# Altium schematic symbol library SILICA_SCHLIB.SchLib: 303 symbols (part 4 of 4)
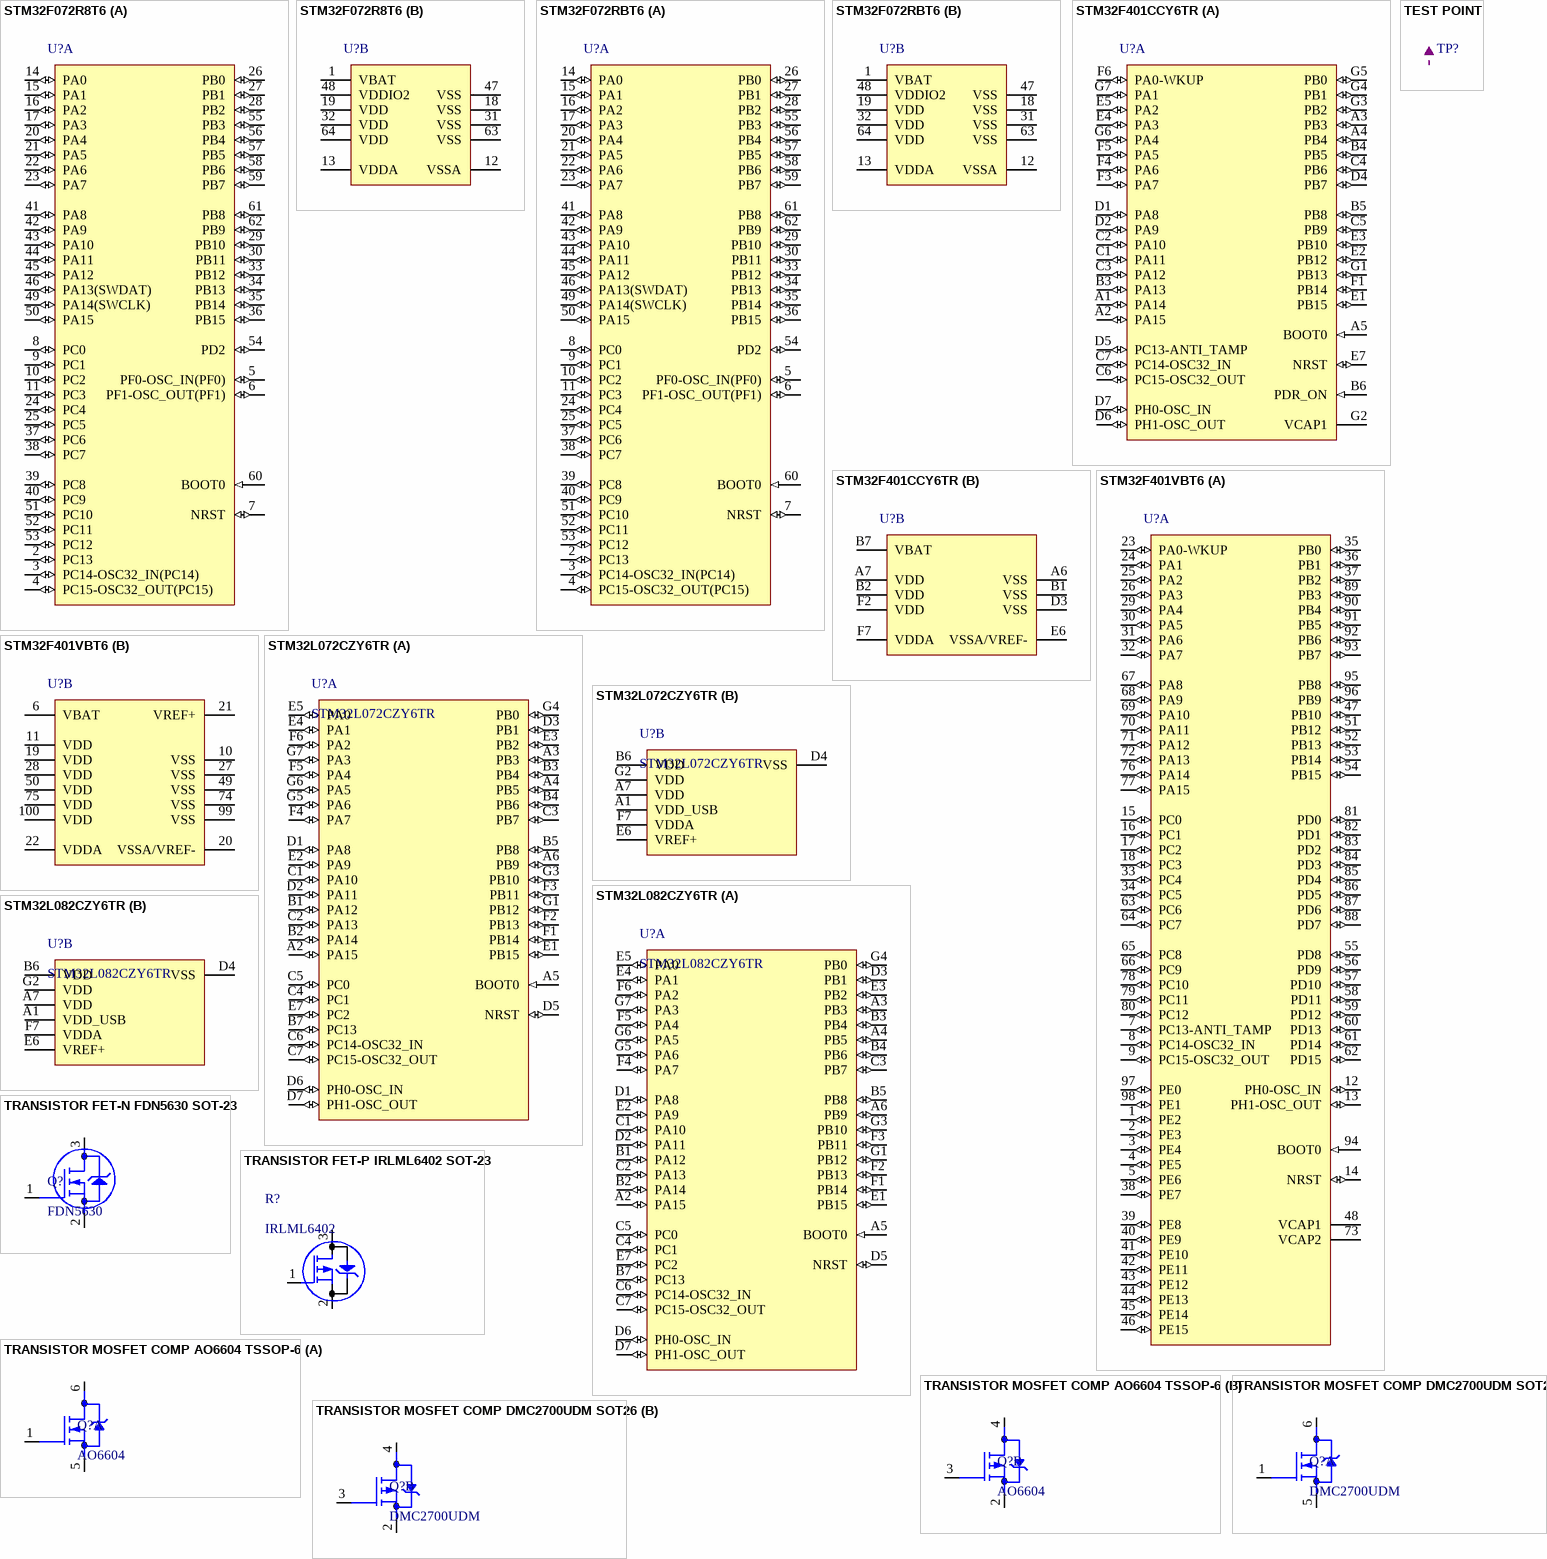
[diagram p12: symbols STM32F072R8T6 to TRANSISTOR MOSFET COMP DMC2700UDM SOT26]

## STM32F401VBT6
designator U?
ARM Cortex-M4 32-bit MCU+FPU, 105 DMIPS, 128 kB Flash, 64 kB Internal RAM, 79 I/Os, 100-pin LQFP, -40 to 85 degC, Tray; Manufacturer: STMicroelectronics; PartNumber: STM32F401VBT6; FLASH Size (Prog) (kB): 128; I/Os (High Current): 79; Internal RAM Size (kB): 64; Operating Frequency(F) (Processor speed) (MHz): 84; Supply Voltage(Vcc) max (V): 3.6; Supply Voltage(Vcc) min (V): 1.8; DatasheetVersion: Rev. 1; PackageVersion: Rev. 1, 06/2013; PackageReference: LQFP100; PackageDescription: 100-Pin Low Profile Quad Flat Package, 14 x 14 mm Body, 0.5 mm Pitch; Supplier 1: Newark; Supplier Part Number 1: 19X6222; Supplier 2: Mouser; Supplier Part Number 2: 511-STM32F401VBT6; Core: ARM Cortex-M4; Packing: Tray; Mounting Technology: Surface Mount; ComponentLink1Description: Manufacturer URL; ComponentLink1URL: http://www.st.com/web/en/home.html; ComponentLink2Description: Datasheet; ComponentLink2URL: http://www.st.com/st-web-ui/static/active/en/resource/technical/document/data_brief/DM00071938.pdf; ComponentLink3Description: Package Specification; ComponentLink3URL: http://www.st.com/st-web-ui/static/active/en/resource/technical/document/data_brief/DM00071938.pdf
footprint STM-LQFP100_N (Thin QFP, 100-Leads, Body 14x14mm, Pitch 0.5mm, IPC Medium Density)
footprint STM-LQFP100_L (Thin QFP, 100-Leads, Body 14x14mm, Pitch 0.5mm, IPC High Density)
footprint STM-LQFP100_M (Thin QFP, 100-Leads, Body 14x14mm, Pitch 0.5mm, IPC Low Density)
footprint STM-LQFP100_V (Thin QFP, 100-Leads, Body 14x14mm, Pitch 0.5mm, ST Recommended)
part A pins: 1 PE2 (io) "PE2/SPI4_SCK,TRACECLK", 2 PE3 (io) "PE3/TRACED0", 3 PE4 (io) "PE4/SPI4_NSS,TRACED1", 4 PE5 (io) "PE5/SPI4_MISO,TIM9_CH1,TRACED2", 5 PE6 (io) "PE6/SPI4_MOSI,TIM9_CH2,TRACED3", 7 PC13-ANTI_TAMP (io) "PC13-ANTI_TAMP/TAMP_1", 8 PC14-OSC32_IN (io) "PC14-OSC32_IN/OSC32_IN", 9 PC15-OSC32_OUT (io) "PC15-OSC32_OUT/OSC32_OUT", 12 PH0-OSC_IN (io) "PH0-OSC_IN/OSC_IN", 13 PH1-OSC_OUT (io) "PH1-OSC_OUT/OSC_OUT", 14 NRST (io), 15 PC0 (io) "PC0/ADC1_10", 16 PC1 (io) "PC1/ADC1_11", 17 PC2 (io) "PC2/SPI2_MISO,I2S2ext_SD/ADC1_12", 18 PC3 (io) "PC3/SPI2_MOSI/I2S2_SD/ADC1_13", 23 PA0-WKUP (io) "PA0-WKUP/USART2_CTS,TIM2_CH1/TIM2_ETR,TIM5_CH1/ADC1_0,WKUP", 24 PA1 (io) "PA1/USART2_RTS,TIM2_CH2,TIM5_CH2/ADC1_1", 25 PA2 (io) "PA2/USART2_TX,TIM2_CH3,TIM5_CH3,TIM9_CH1/ADC1_2", 26 PA3 (io) "PA3/USART2_RX,TIM2_CH4,TIM5_CH4,TIM9_CH2/ADC1_3", 29 PA4 (io) "PA4/SPI1_NSS,SPI3_NSS/I2S3_WS,USART2_CK/ADC1_4", 30 PA5 (io) "PA5/SPI1_SCK,TIM2_CH1/TIM2_ETR/ADC1_5", 31 PA6 (io) "PA6/SPI1_MISO,TIM1_BKIN,TIM3_CH1/ADC1_6", 32 PA7 (io) "PA7/SPI1_MOSI,TIM1_CH1N,TIM3_CH2/ADC1_7", 33 PC4 (io) "PC4/ADC1_14", 34 PC5 (io) "PC5/ADC1_15", 35 PB0 (io) "PB0/TIM1_CH2N,TIM3_CH3/ADC1_8", 36 PB1 (io) "PB1/TIM1_CH3N,TIM3_CH4/ADC1_9", 37 PB2 (io), 38 PE7 (io) "PE7/TIM1_ETR", 39 PE8 (io) "PE8/TIM1_CH1N", 40 PE9 (io) "PE9/TIM1_CH1", 41 PE10 (io) "PE10/TIM1_CH2N", 42 PE11 (io) "PE11/SPI4_NSS,TIM1_CH2", 43 PE12 (io) "PE12/SPI4_SCK,TIM1_CH3N", 44 PE13 (io) "PE13/SPI4_MISO,TIM1_CH3", 45 PE14 (io) "PE14/SPI4_MOSI,TIM1_CH4", 46 PE15 (io) "PE15/TIM1_BKIN", 47 PB10 (io) "PB10/SPI2_SCK/I2S2_CK,I2C2_SCL,TIM2_CH3", 48 VCAP1 (power), 51 PB12 (io) "PB12/SPI2_NSS/I2S2_WS,I2C2_SMBAL,TIM1_BKIN", 52 PB13 (io) "PB13/SPI2_SCK/I2S2_CK,TIM1_CH1N", 53 PB14 (io) "PB14/SPI2_MISO,I2S2ext_SD,TIM1_CH2N", 54 PB15 (io) "PB15/SPI2_MOSI/I2S2_SD,TIM1_CH3N,RTC_50Hz", 55 PD8 (io), 56 PD9 (io), 57 PD10 (io), 58 PD11 (io), 59 PD12 (io) "PD12/TIM4_CH1", 60 PD13 (io) "PD13/TIM4_CH2", 61 PD14 (io) "PD14/TIM4_CH3", 62 PD15 (io) "PD15/TIM4_CH4", 63 PC6 (io) "PC6/I2S2_MCK,USART6_TX,TIM3_CH1,SDIO_D6", 64 PC7 (io) "PC7/I2S3_MCK,USART6_RX,TIM3_CH2,SDIO_D7", 65 PC8 (io) "PC8/USART6_CK,TIM3_CH3,SDIO_D0", 66 PC9 (io) "PC9/I2S2_CKIN,I2C3_SDA,TIM3_CH4,SDIO_D1,MCO_2", 67 PA8 (io) "PA8/I2C3_SCL,USART1_CK,TIM1_CH1,USB_FS_SOF,MCO_1", 68 PA9 (io) "PA9/I2C3_SMBAL,USART1_TX,TIM1_CH2,USB_FS_VBUS", 69 PA10 (io) "PA10/USART1_RX,TIM1_CH3,USB_FS_ID", 70 PA11 (io) "PA11/USART1_CTS,USART6_TX,TIM1_CH4,USB_FS_DM", 71 PA12 (io) "PA12/USART1_RTS,USART6_RX,TIM1_ETR,USB_FS_DP", 72 PA13 (io) "PA13/JTMS-SWDIO", 73 VCAP2 (power), 76 PA14 (io) "PA14/JTCK-SWCLK", 77 PA15 (io) "PA15/SPI1_NSS,SPI3_NSS/I2S3_WS,TIM2_CH1/TIM2_ETR,JTDI", 78 PC10 (io) "PC10/SPI3_SCK/I2S3_CK,SDIO_D2", 79 PC11 (io) "PC11/I2S3ext_SD,SPI3_MISO,SDIO_D3", 80 PC12 (io) "PC12/SPI3_MOSI/I2S3_SD,SDIO_CK", 81 PD0 (io), 82 PD1 (io), 83 PD2 (io) "PD2/TIM3_ETR,SDIO_CMD", 84 PD3 (io) "PD3/SPI2_SCK/I2S2_CK,USART2_CTS", 85 PD4 (io) "PD4/USART2_RTS", 86 PD5 (io) "PD5/USART2_TX", 87 PD6 (io) "PD6/SPI3_MOSI/I2S3_SD,USART2_RX", 88 PD7 (io) "PD7/USART2_CK", 89 PB3 (io) "PB3/SPI1_SCK,SPI3_SCK/I2S3_CK,I2C2_SDA,TIM2_CH2,JTDO-SWO", 90 PB4 (io) "PB4/SPI1_MISO,SPI3_MISO,I2S3ext_SD,I2C3_SDA,TIM3_CH1,JTRST", 91 PB5 (io) "PB5/SPI1_MOSI,SPI3_MOSI/I2S3_SD,I2C1_SMBAL,TIM3_CH2", 92 PB6 (io) "PB6/I2C1_SCL,USART1_TX,TIM4_CH1", 93 PB7 (io) "PB7/I2C1_SDA,USART1_RX,TIM4_CH2", 94 BOOT0 (in), 95 PB8 (io) "PB8/I2C1_SCL,TIM4_CH3,TIM10_CH1,SDIO_D4", 96 PB9 (io) "PB9/SPI2_NSS/I2S2_WS,I2C1_SDA,TIM4_CH4,TIM11_CH1,SDIO_D5", 97 PE0 (io) "PE0/TIM4_ETR", 98 PE1 (io)
part B pins: 6 VBAT (power), 10 VSS (power), 11 VDD (power), 19 VDD (power), 20 VSSA/VREF- (power), 21 VREF+ (power), 22 VDDA (power), 27 VSS (power), 28 VDD (power), 49 VSS (power), 50 VDD (power), 74 VSS (power), 75 VDD (power), 99 VSS (power), 100 VDD (power)

## STM32L072CZY6TR
designator U?
ARM Cortex-M0+ 32-bit MCU, 192kB Flash, 20KB SRAM, 6KB EEPROM, USB, ADC, DACs, 49-pin WLCSP, -40 to 85 degC, Tape and Reel; Manufacturer: STMicroelectronics; PackageReference: WLCSP49; Packing: Tape and Reel; Mounting Technology: Surface Mount; Supplier 1: Farnell; Supplier 2: Newark; Supplier 3: Digi-Key; Supplier Part Number 1: 2518147; Supplier Part Number 2: 74Y7872; Supplier Part Number 3: STM32L072CZY6TR-ND; PartNumber: STM32L072CZY6TR
footprint STM-WLCSP49 (BGA, 49-Balls, Body 2.97x2.97mm, Pitch 0.4mm)
part A pins: A2 PA15 (io) "PA15/SPI1_NSS,SPI3_NSS/I2S3_WS,TIM2_CH1/TIM2_ETR,JTDI", A3 PB3 (io) "PB3/SPI1_SCK,SPI3_SCK/I2S3_CK,I2C2_SDA,TIM2_CH2,JTDO-SWO", A4 PB5 (io) "PB5/SPI1_MOSI,SPI3_MOSI/I2S3_SD,I2C1_SMBAL,TIM3_CH2", A5 BOOT0 (in), A6 PB9 (io) "PB9/SPI2_NSS/I2S2_WS,I2C1_SDA,TIM4_CH4,TIM11_CH1,SDIO_D5", B1 PA12 (io) "PA12/USART1_RTS,USART6_RX,TIM1_ETR,USB_FS_DP", B2 PA14 (io) "PA14/JTCK-SWCLK", B3 PB4 (io) "PB4/SPI1_MISO,SPI3_MISO,I2S3ext_SD,I2C3_SDA,TIM3_CH1,JTRST", B4 PB6 (io) "PB6/I2C1_SCL,USART1_TX,TIM4_CH1", B5 PB8 (io) "PB8/I2C1_SCL,TIM4_CH3,TIM10_CH1,SDIO_D4", B7 PC13 (io) "PC13-ANTI_TAMP/TAMP_1", C1 PA10 (io) "PA10/USART1_RX,TIM1_CH3,USB_FS_ID", C2 PA13 (io) "PA13/JTMS-SWDIO", C3 PB7 (io) "PB7/I2C1_SDA,USART1_RX,TIM4_CH2", C4 PC1 (io) "PC13-ANTI_TAMP/TAMP_1", C5 PC0 (io) "PC13-ANTI_TAMP/TAMP_1", C6 PC14-OSC32_IN (io) "PC14-OSC32_IN/OSC32_IN", C7 PC15-OSC32_OUT (io) "PC15-OSC32_OUT/OSC32_OUT", D1 PA8 (io) "PA8/I2C3_SCL,USART1_CK,TIM1_CH1,USB_FS_SOF,MCO_1", D2 PA11 (io) "PA11/USART1_CTS,USART6_TX,TIM1_CH4,USB_FS_DM", D3 PB1 (io) "PB1/TIM1_CH3N,TIM3_CH4/ADC1_9", D5 NRST (io), D6 PH0-OSC_IN (io) "PH0-OSC_IN/OSC_IN", D7 PH1-OSC_OUT (io) "PH1-OSC_OUT/OSC_OUT", E1 PB15 (io) "PB15/SPI2_MOSI/I2S2_SD,TIM1_CH3N,RTC_50Hz", E2 PA9 (io) "PA9/I2C3_SMBAL,USART1_TX,TIM1_CH2,USB_FS_VBUS", E3 PB2 (io), E4 PA1 (io) "PA1/USART2_RTS,TIM2_CH2,TIM5_CH2/ADC1_1", E5 PA0 (io) "PA0-WKUP/USART2_CTS,TIM2_CH1/TIM2_ETR,TIM5_CH1/ADC1_0,WKUP", E7 PC2 (io) "PC13-ANTI_TAMP/TAMP_1", F1 PB14 (io) "PB14/SPI2_MISO,I2S2ext_SD,TIM1_CH2N", F2 PB13 (io) "PB13/SPI2_SCK/I2S2_CK,TIM1_CH1N", F3 PB11 (io) "PB12/SPI2_NSS/I2S2_WS,I2C2_SMBAL,TIM1_BKIN", F4 PA7 (io) "PA7/SPI1_MOSI,TIM1_CH1N,TIM3_CH2/ADC1_7", F5 PA4 (io) "PA4/SPI1_NSS,SPI3_NSS/I2S3_WS,USART2_CK/ADC1_4", F6 PA2 (io) "PA2/USART2_TX,TIM2_CH3,TIM5_CH3,TIM9_CH1/ADC1_2", G1 PB12 (io) "PB12/SPI2_NSS/I2S2_WS,I2C2_SMBAL,TIM1_BKIN", G3 PB10 (io) "PB10/SPI2_SCK/I2S2_CK,I2C2_SCL,TIM2_CH3", G4 PB0 (io) "PB0/TIM1_CH2N,TIM3_CH3/ADC1_8", G5 PA6 (io) "PA6/SPI1_MISO,TIM1_BKIN,TIM3_CH1/ADC1_6", G6 PA5 (io) "PA5/SPI1_SCK,TIM2_CH1/TIM2_ETR/ADC1_5", G7 PA3 (io) "PA3/USART2_RX,TIM2_CH4,TIM5_CH4,TIM9_CH2/ADC1_3"
part B pins: A1 VDD_USB "VDD", A7 VDD, B6 VDD, D4 VSS, E6 VREF+ "VSSA/VREF-", F7 VDDA, G2 VDD

## STM32L082CZY6TR
designator U?
Ultra-low-power ARM Cortex-M0+ MCU with 192-Kbytes Flash, 32 MHz CPU, AES, 20KB SRAM, 6KB EEPROM, USB, ADC, DACs, 49-pin WLCSP, -40 to 85 degC, Tape and Reel; Manufacturer 1: STMicroelectronics; PackageReference: WLCSP49; Packing: Tape and Reel; Mounting Technology: Surface Mount; PartNumber: STM32L082CZY6TR; Supplier 1: Digi-Key; Supplier 2: Newark; Supplier Part Number 1: STM32L082CZY6TR-ND; Supplier Part Number 2: 84Y8813; Manufacturer Part Number 1: STM32L082CZY6TR
footprint STM-WLCSP49 (BGA, 49-Balls, Body 2.97x2.97mm, Pitch 0.4mm)
part A pins: A2 PA15 (io) "PA15/SPI1_NSS,SPI3_NSS/I2S3_WS,TIM2_CH1/TIM2_ETR,JTDI", A3 PB3 (io) "PB3/SPI1_SCK,SPI3_SCK/I2S3_CK,I2C2_SDA,TIM2_CH2,JTDO-SWO", A4 PB5 (io) "PB5/SPI1_MOSI,SPI3_MOSI/I2S3_SD,I2C1_SMBAL,TIM3_CH2", A5 BOOT0 (in), A6 PB9 (io) "PB9/SPI2_NSS/I2S2_WS,I2C1_SDA,TIM4_CH4,TIM11_CH1,SDIO_D5", B1 PA12 (io) "PA12/USART1_RTS,USART6_RX,TIM1_ETR,USB_FS_DP", B2 PA14 (io) "PA14/JTCK-SWCLK", B3 PB4 (io) "PB4/SPI1_MISO,SPI3_MISO,I2S3ext_SD,I2C3_SDA,TIM3_CH1,JTRST", B4 PB6 (io) "PB6/I2C1_SCL,USART1_TX,TIM4_CH1", B5 PB8 (io) "PB8/I2C1_SCL,TIM4_CH3,TIM10_CH1,SDIO_D4", B7 PC13 (io) "PC13-ANTI_TAMP/TAMP_1", C1 PA10 (io) "PA10/USART1_RX,TIM1_CH3,USB_FS_ID", C2 PA13 (io) "PA13/JTMS-SWDIO", C3 PB7 (io) "PB7/I2C1_SDA,USART1_RX,TIM4_CH2", C4 PC1 (io) "PC13-ANTI_TAMP/TAMP_1", C5 PC0 (io) "PC13-ANTI_TAMP/TAMP_1", C6 PC14-OSC32_IN (io) "PC14-OSC32_IN/OSC32_IN", C7 PC15-OSC32_OUT (io) "PC15-OSC32_OUT/OSC32_OUT", D1 PA8 (io) "PA8/I2C3_SCL,USART1_CK,TIM1_CH1,USB_FS_SOF,MCO_1", D2 PA11 (io) "PA11/USART1_CTS,USART6_TX,TIM1_CH4,USB_FS_DM", D3 PB1 (io) "PB1/TIM1_CH3N,TIM3_CH4/ADC1_9", D5 NRST (io), D6 PH0-OSC_IN (io) "PH0-OSC_IN/OSC_IN", D7 PH1-OSC_OUT (io) "PH1-OSC_OUT/OSC_OUT", E1 PB15 (io) "PB15/SPI2_MOSI/I2S2_SD,TIM1_CH3N,RTC_50Hz", E2 PA9 (io) "PA9/I2C3_SMBAL,USART1_TX,TIM1_CH2,USB_FS_VBUS", E3 PB2 (io), E4 PA1 (io) "PA1/USART2_RTS,TIM2_CH2,TIM5_CH2/ADC1_1", E5 PA0 (io) "PA0-WKUP/USART2_CTS,TIM2_CH1/TIM2_ETR,TIM5_CH1/ADC1_0,WKUP", E7 PC2 (io) "PC13-ANTI_TAMP/TAMP_1", F1 PB14 (io) "PB14/SPI2_MISO,I2S2ext_SD,TIM1_CH2N", F2 PB13 (io) "PB13/SPI2_SCK/I2S2_CK,TIM1_CH1N", F3 PB11 (io) "PB12/SPI2_NSS/I2S2_WS,I2C2_SMBAL,TIM1_BKIN", F4 PA7 (io) "PA7/SPI1_MOSI,TIM1_CH1N,TIM3_CH2/ADC1_7", F5 PA4 (io) "PA4/SPI1_NSS,SPI3_NSS/I2S3_WS,USART2_CK/ADC1_4", F6 PA2 (io) "PA2/USART2_TX,TIM2_CH3,TIM5_CH3,TIM9_CH1/ADC1_2", G1 PB12 (io) "PB12/SPI2_NSS/I2S2_WS,I2C2_SMBAL,TIM1_BKIN", G3 PB10 (io) "PB10/SPI2_SCK/I2S2_CK,I2C2_SCL,TIM2_CH3", G4 PB0 (io) "PB0/TIM1_CH2N,TIM3_CH3/ADC1_8", G5 PA6 (io) "PA6/SPI1_MISO,TIM1_BKIN,TIM3_CH1/ADC1_6", G6 PA5 (io) "PA5/SPI1_SCK,TIM2_CH1/TIM2_ETR/ADC1_5", G7 PA3 (io) "PA3/USART2_RX,TIM2_CH4,TIM5_CH4,TIM9_CH2/ADC1_3"
part B pins: A1 VDD_USB "VDD", A7 VDD, B6 VDD, D4 VSS, E6 VREF+ "VSSA/VREF-", F7 VDDA, G2 VDD

## TEST POINT
designator TP?  (value not drawn)  (no BOM)
footprint TESTE POINT
pins: 1

## TRANSISTOR FET-N FDN5630 SOT-23
designator Q?, comment FDN5630
N-Channel 60V 1.7A (Ta) 500mW (Ta) Surface Mount SuperSOT-3; Manufacturer 1: ON Semiconductor; VALUE: FDN5630; Part Number 1: FDN5630
footprint SOT23-3 (SOT23, 3-Leads, Body 3,0x2,5mm (max), Pitch 0,83mm, IPC Medium Density)
pins: 1 G, 2 S, 3 D

## TRANSISTOR FET-P IRLML6402 SOT-23
designator R?, comment IRLML6402
P-Channel 20V 3.7A (Ta) 1.3W (Ta) Surface Mount Micro3™/SOT-23; Part Number 1: IRLML6402TRPBF; Manufacturer 1: Infineon Technologies; VALUE: IRLML6402
footprint SOT23-3 (SOT23, 3-Leads, Body 3,0x2,5mm (max), Pitch 0,83mm, IPC Medium Density)
pins: 1 G, 2 S, 3 D

## TRANSISTOR MOSFET COMP AO6604 TSSOP-6
designator Q?, comment AO6604
Mosfet Array N and P-Channel Complementary 20V 3.4A, 2.5A 1.1W Surface Mount 6-TSOP; Manufacturer 1: Alpha & Omega Semiconductor Inc.; VALUE: AO6604; Part Number 1: AO6604
footprint TSOP6
part A pins: 1 G, 5 S, 6 D
part B pins: 2 S, 3 G, 4 D

## TRANSISTOR MOSFET COMP DMC2700UDM SOT26
designator Q?, comment DMC2700UDM
Mosfet Array N and P-Channel 20V 1.34A, 1.14A 1.12W Surface Mount SOT-26; Part Number 1: DMC2700UDM-7; Manufacturer 1: Diodes Incorporated; VALUE: DMC2700UDM
footprint SOT-26
footprint SOT-26
part A pins: 1 G, 5 S, 6 D
part B pins: 2 S, 3 G, 4 D

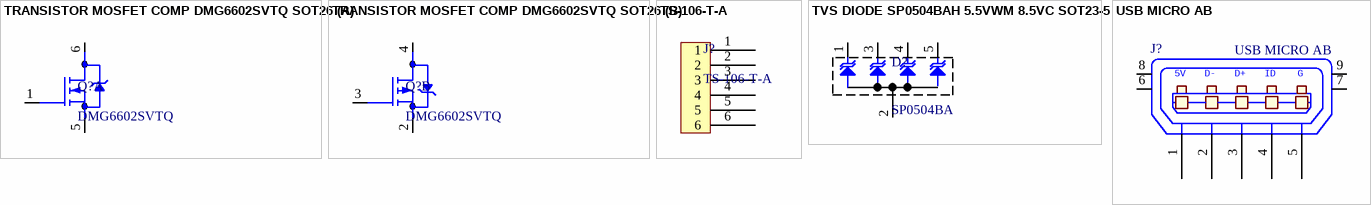
[diagram p9: symbols TRANSISTOR MOSFET COMP DMG6602SVTQ SOT26 to USB MICRO AB]

## TRANSISTOR MOSFET COMP DMG6602SVTQ SOT26
designator Q?, comment DMG6602SVTQ
Mosfet Array N and P-Channel 30V 3.4A, 2.8A 840mW Surface Mount TSOT-26; Manufacturer 1: Diodes Incorporated; Part Number 1: DMG6602SVTQ-7; Supplier 1: Digi-Key; Supplier 2: Digi-Key; Supplier 3: Digi-Key; Supplier 4: Mouser; Supplier 5: Arrow Electronics Inc.; Supplier 6: Avnet; Supplier Part Number 2: DMG6602SVTQ-7DIDKR-ND; Supplier Part Number 3: DMG6602SVTQ-7DITR-ND; Supplier Part Number 4: 621-DMG6602SVTQ-7; Supplier Part Number 5: DMG6602SVTQ-7; Supplier Part Number 6: DMG6602SVTQ-7; Supplier Part Number 1: DMG6602SVTQ-7DICT-ND
footprint SOT-26
part A pins: 1 G, 5 S, 6 D
part B pins: 2 S, 3 G, 4 D

## TS-106-T-A
designator J?
footprint TS-106-T-A
pins: 1, 2, 3, 4, 5, 6

## TVS DIODE SP0504BAH 5.5VWM 8.5VC SOT23-5
designator D?, comment SP0504BA
Surface Mount TVS Avalanche Diode Array; Manufacturer 1: Littelfuse Inc.; Manufacturer Part Number 1: SP0504BAHTG; TYPE: TVS Avalanche Diode Array; Supplier 1: Digi-Key; Supplier 4: Digi-Key; Supplier Part Number 1: F3157TR-ND; Supplier Part Number 4: SP0504BAHT-ND; DataSheet: http://www.littelfuse.com/~/media/files/littelfuse/technical%20resources/documents/data%20sheets/sp05xxba.pdf; VALUE: SP0504BA
footprint SOT23-5
pins: 1 IO1, 2 COMMON, 3 IO2, 4 IO3, 5 IO4

## USB MICRO AB
designator J?
CONN RCPT MICRO USB AB R/A SMD; Manufacturer: Molex Inc; Manufacturer Part Number: 0475890001; Connector Type: USB - micro AB; Number of Contacts: 5; Gender: Receptacle; Supplier 1: Digi-Key; RoHS: RoHS Compliant; Category: Connectors, Interconnects; Packaging: Cut Tape (CT); Specifications: -; Mounting Type: Surface Mount, Right Angle, Horizontal; Features: Board Guide, Shielded; Ingress Protection: -; ComponentLink1URL: http://www.molex.com/pdm_docs/sd/475890001_sd.pdf; ComponentLink1Description: http://www.molex.com/pdm_docs/sd/475890001_sd.pdf; Supplier Part Number 1: 609-4613-1-ND
footprint USB_MICRO_AB
pins: 1 P1, 2 P2, 3 P3, 4 P4, 5 P5, 6, 7, 8, 9
text: 5V; D-; D+; ID; G